# Altium footprint library SHDRRA3W64P0X254_1X3_813X1359X699P.PcbLib: 1 footprints
Each footprint in its own frame and in the unit in brackets; x right, y up, seen from the top. Pads: shape width x height; smd on the part's side, far side on the other; paste and mask are expansions set on the pad; w line width, h text height; cw(c..) or ccw(c..) is an arc to the next point about the centre after c.
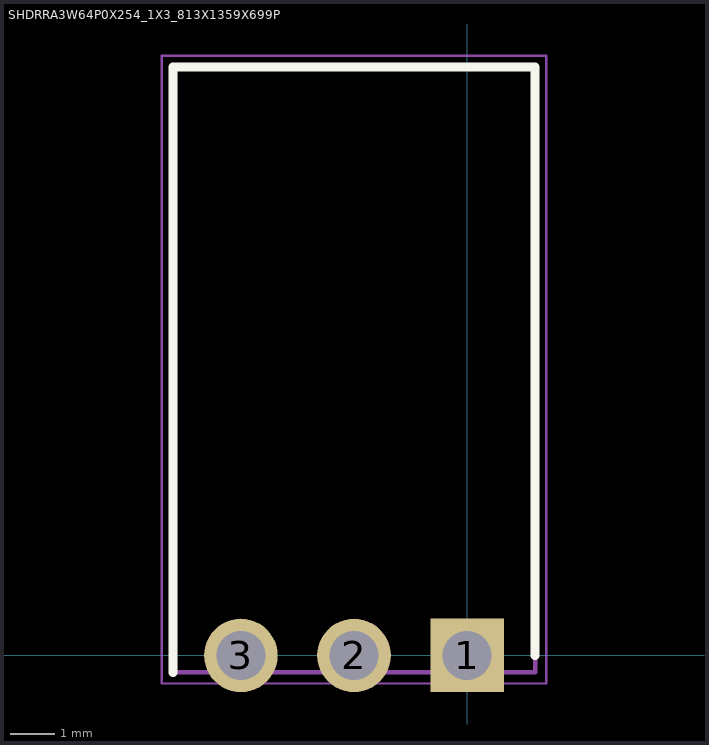
[diagram p0: the footprint, top view; thin cyan lines are the x and y axes]

## SHDRRA3W64P0X254_1X3_813X1359X699P [mm]
pads (3):
  rect 1.65x1.65 / inner round 1.65 / far side rect 1.65x1.65 hole 1.1: 1(0,0)
  round 1.65 hole 1.1: 2(-2.54,0) 3(-5.08,0)
Top Overlay:
  lines w0.2: -6.605,-0.38 -6.605,13.21 1.525,13.21 1.525,0
Mechanical 15:
  lines w0.1: -6.605,-0.38 1.525,-0.38 1.525,13.21 -6.605,13.21 -6.605,-0.38
Mechanical 20:
  lines w0.05: -6.855,-0.63 1.775,-0.63 1.775,13.46 -6.855,13.46 -6.855,-0.63